# Altium footprint library ROBOT_MOTHERBOARD.PcbLib: 40 footprints (part 3 of 3)
Each footprint in its own frame and in the unit in brackets; x right, y up, seen from the top. Pads: shape width x height; smd on the part's side, far side on the other; paste and mask are expansions set on the pad; w line width, h text height; cw(c..) or ccw(c..) is an arc to the next point about the centre after c.
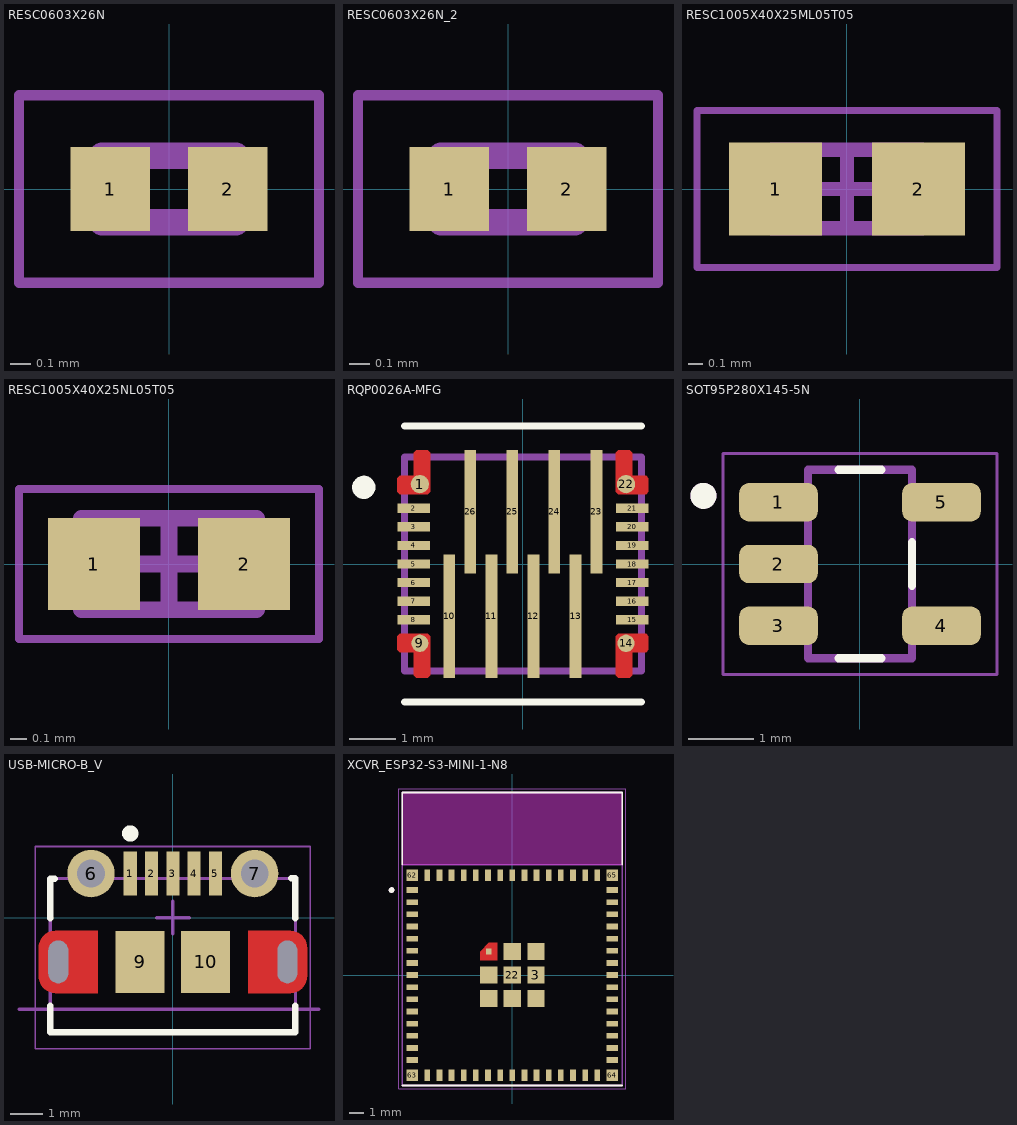
[diagram p2: the footprints below, top view; thin cyan lines are the x and y axes]

## RESC0603X26N [mm]
height 1
pads (2):
  rect 0.38x0.4 smd paste+0 mask+0.102: 1(-0.281,0) 2(0.281,0)
Mechanical 13:
  lines w0.127: -0.32,-0.16 -0.32,0.16 0.32,0.16 0.32,-0.16 -0.32,-0.16
Mechanical 15:
  lines w0.05: -0.718,-0.448 -0.718,0.448 0.718,0.448 0.718,-0.448 -0.718,-0.448
3D body "step_temp.STEP": height 0.26, standoff 0, extent -0.3,-0.15 0.3,0.15

## RESC0603X26N_2 [mm]
pads (2):
  rect 0.38x0.4 smd: 1(-0.281,0) 2(0.281,0)
Mechanical 13:
  lines w0.127: -0.32,-0.16 -0.32,0.16 0.32,0.16 0.32,-0.16 -0.32,-0.16
Mechanical 15:
  lines w0.05: -0.718,-0.448 -0.718,0.448 0.718,0.448 0.718,-0.448 -0.718,-0.448
3D body "step_temp.STEP": height 0.26, standoff 0, extent -0.3,-0.15 0.3,0.15

## RESC1005X40X25ML05T05 [mm] "Chip Resistor, 2-Leads, Body 1.00x0.50mm, IPC Low Density"
height 0.4
pads (2):
  rect 0.65x0.65 smd: 1(-0.5,0) 2(0.5,0)
Mechanical 13:
  lines w0.1: -0.525,-0.275 0.525,-0.275 0.525,0.275 -0.525,0.275 -0.525,-0.275
Mechanical 15:
  lines w0.05: -1.05,-0.55 1.05,-0.55 1.05,0.55 -1.05,0.55 -1.05,-0.55
  lines w0.1: -0.275,0 0.275,0 ; 0,-0.275 0,0.275
3D body: height 0.4, standoff 0, extent 0.275,-0.275 0.525,0.275
3D body: height 0.4, standoff 0, extent -0.525,-0.275 -0.275,0.275
3D body: height 0.4, standoff 0, extent -0.275,-0.275 0.275,0.275

## RESC1005X40X25NL05T05 [mm] "Chip Resistor, 2-Leads, Body 1.00x0.50mm, IPC Medium Density"
height 0.4
pads (2):
  rect 0.55x0.55 smd: 1(-0.45,0) 2(0.45,0)
Mechanical 13:
  lines w0.1: -0.525,-0.275 0.525,-0.275 0.525,0.275 -0.525,0.275 -0.525,-0.275
Mechanical 15:
  lines w0.05: -0.9,-0.45 0.9,-0.45 0.9,0.45 -0.9,0.45 -0.9,-0.45
  lines w0.1: -0.275,0 0.275,0 ; 0,-0.275 0,0.275
3D body: height 0.4, standoff 0, extent 0.275,-0.275 0.525,0.275
3D body: height 0.4, standoff 0, extent -0.525,-0.275 -0.275,0.275
3D body: height 0.4, standoff 0, extent -0.275,-0.275 0.275,0.275

## RQP0026A-MFG [mm]
height 11.45
pads (26):
  round 0.394 smd paste-0.184 mask+0: 1(-2.219,1.719) 22(2.219,1.719)
  rect 0.7x0.2 smd paste+0 mask+0: 2(-2.35,1.2) 3(-2.35,0.8) 4(-2.35,0.4) 5(-2.35,0) 6(-2.35,-0.4) 7(-2.35,-0.8) 8(-2.35,-1.2) 15(2.35,-1.2) 16(2.35,-0.8) 17(2.35,-0.4) 18(2.35,0) 19(2.35,0.4) 20(2.35,0.8) 21(2.35,1.2)
  round 0.371 smd paste-0.173 mask+0: 9(-2.219,-1.706) 14(2.219,-1.706)
  rect 0.25x2.65 smd paste-1.312 mask+0: 10(-1.582,-1.125) 11(-0.677,-1.125) 12(0.228,-1.125) 13(1.132,-1.125) 23(1.582,1.125) 24(0.677,1.125) 25(-0.228,1.125) 26(-1.132,1.125)
Top Layer:
  region: -2.05,-1.5 -2.65,-1.5 -2.7,-1.55 -2.7,-1.85 -2.65,-1.9 -2.35,-1.9 -2.35,-2.4 -2.3,-2.45 -2.05,-2.45 -2,-2.4 -2,-1.55
  region: 2.05,1.5 2.65,1.5 2.7,1.55 2.7,1.85 2.65,1.9 2.35,1.9 2.35,2.4 2.3,2.45 2.05,2.45 2,2.4 2,1.55
  region: 2.05,-1.5 2.65,-1.5 2.7,-1.55 2.7,-1.85 2.65,-1.9 2.35,-1.9 2.35,-2.4 2.3,-2.45 2.05,-2.45 2,-2.4 2,-1.55
  region: -2.05,1.5 -2.65,1.5 -2.7,1.55 -2.7,1.85 -2.65,1.9 -2.35,1.9 -2.35,2.4 -2.3,2.45 -2.05,2.45 -2,2.4 -2,1.55
Top Overlay:
  circle w0.25: c-3.425,1.65 r0.125
  lines w0.15: -2.55,-2.975 2.55,-2.975 ; -2.55,2.975 2.55,2.975
Top Paste:
  drawing of 20 lines, arcs and shapes, not listed
Top Solder:
  region: -2.7,-1.55 -2.65,-1.5 -2.05,-1.5 -2,-1.55 -2,-2.4 -2.05,-2.45 -2.3,-2.45 -2.35,-2.4 -2.35,-1.9 -2.65,-1.9 -2.7,-1.85
  region: 2.7,1.55 2.65,1.5 2.05,1.5 2,1.55 2,2.4 2.05,2.45 2.3,2.45 2.35,2.4 2.35,1.9 2.65,1.9 2.7,1.85
  region: 2.05,-1.5 2.65,-1.5 2.7,-1.55 2.7,-1.85 2.65,-1.9 2.35,-1.9 2.35,-2.4 2.3,-2.45 2.05,-2.45 2,-2.4 2,-1.55
  region: -2.05,1.5 -2.65,1.5 -2.7,1.55 -2.7,1.85 -2.65,1.9 -2.35,1.9 -2.35,2.4 -2.3,2.45 -2.05,2.45 -2,2.4 -2,1.55
Mechanical 13:
  lines w0.15: -2.55,-2.3 -2.55,2.3 2.55,2.3 2.55,-2.3 -2.55,-2.3
3D body "RQP0026A.stp": height 1, standoff 0, extent -2.5,-2.25 2.5,2.25

## SOT95P280X145-5N [mm]
pads (5):
  rrect50% 1.21x0.59 smd: 1(-1.255,0.95) 2(-1.255,0) 3(-1.255,-0.95) 4(1.255,-0.95) 5(1.255,0.95)
Top Overlay:
  circle w0.2: c-2.41,1.05 r0.1
  lines w0.127: -0.33,-1.45 0.33,-1.45 ; -0.33,1.45 0.33,1.45 ; 0.8,-0.335 0.8,0.335
Mechanical 13:
  circle w0.2: c-2.41,1.05 r0.1
  lines w0.127: -0.8,-1.45 -0.8,1.45 0.8,1.45 0.8,-1.45 -0.8,-1.45
Mechanical 15:
  lines w0.05: -2.11,-1.7 2.11,-1.7 2.11,1.7 -2.11,1.7 -2.11,-1.7
3D body "step_temp.STEP": height 1.45, standoff 0, extent -1.4,-1.45 1.4,1.45

## USB-MICRO-B_V [mm] "USB, MICRO B, Body 7.491x4.695 mm, Pitch 0.65 mm"
height 2.673
pads (11):
  rect 0.4x1.35 smd: 1(-1.3,1.35) 2(-0.65,1.35) 3(0,1.35) 4(0.65,1.35) 5(1.3,1.35)
  round 1.45 hole 0.85: 6(-2.5,1.35) 7(2.5,1.35)
  rrect0% 0x0 hole 0.6 slot 1.3 at 90 deg: 8(-3.5,-1.35) 11(3.5,-1.35)
  rect 1.5x1.9 smd: 9(-1,-1.35) 10(1,-1.35)
Top Layer:
  circle w0.5: c3.6,-0.9 r0.25
  circle w0.5: c3.6,-1.8 r0.25
  circle w0.5: c-3.6,-0.9 r0.25
  circle w0.5: c-3.6,-1.8 r0.25
  region: -2.3,-2.3 -2.3,-0.4 -3.6,-0.4 -3.6,-2.3
  region: 2.3,-0.4 2.3,-2.3 3.6,-2.3 3.6,-0.4
  region: 3.6,-0.9 3.6,-1.8 4.1,-1.8 4.1,-0.9
  region: -3.6,-1.8 -3.6,-0.9 -4.1,-0.9 -4.1,-1.8
Top Overlay:
  circle w0.25: c-1.3,2.575 r0.125
  lines w0.2: -3.745,-2.688 -3.745,-3.5 3.745,-3.5 3.745,-2.688 ; -3.745,-0.012 -3.745,1.195 -3.614,1.195 ; 3.615,1.2 3.745,1.2 3.745,-0.012
Mechanical 1:
  lines w0.1: -4.7,-2.8 4.465,-2.8
  text "PCB EDGE" at -7.2,-2.9 h0.3
Mechanical 13:
  lines w0.1: -3.75,1.2 3.745,1.2 3.745,-3.5 -3.745,-3.5 -3.745,1.195
Mechanical 15:
  lines w0.05: -4.2,-4 -4.2,2.175 4.2,2.175 4.2,-4 -4.2,-4
  lines w0.1: -0.5,0 0.5,0 ; 0,-0.5 0,0.5
3D body "1050170001.stp": height 2.67, standoff -0.63, extent -4.1,-3.9 4.1,1.5

## XCVR_ESP32-S3-MINI-1-N8 [mm]
height 2.55
pads (73):
  rect 0.8x0.4 smd: 1(-7,5.95) 2(-7,5.1) 3(-7,4.25) 4(-7,3.4) 5(-7,2.55) 6(-7,1.7) 7(-7,0.85) 8(-7,0) 9(-7,-0.85) 10(-7,-1.7) 11(-7,-2.55) 12(-7,-3.4) 13(-7,-4.25) 14(-7,-5.1) 15(-7,-5.95) 31(7,-5.95) 32(7,-5.1) 33(7,-4.25) 34(7,-3.4) 35(7,-2.55) 36(7,-1.7) 37(7,-0.85) 38(7,0) 39(7,0.85) 40(7,1.7) 41(7,2.55) 42(7,3.4) 43(7,4.25) 44(7,5.1) 45(7,5.95)
  rect 1.2x1.2 smd: 3(1.65,0) 22(0,0) 61_2(0,1.65) 61_3(1.65,1.65) 61_5(1.65,-1.65) 61_6(0,-1.65) 61_7(-1.65,-1.65) 61_8(-1.65,0)
  rect 0.4x0.8 smd: 16(-5.95,-7) 17(-5.1,-7) 18(-4.25,-7) 19(-3.4,-7) 20(-2.55,-7) 21(-1.7,-7) 22(-0.85,-7) 23(0,-7) 24(0.85,-7) 25(1.7,-7) 26(2.55,-7) 27(3.4,-7) 28(4.25,-7) 29(5.1,-7) 30(5.95,-7) 46(5.95,7) 47(5.1,7) 48(4.25,7) 49(3.4,7) 50(2.55,7) 51(1.7,7) 52(0.85,7) 53(0,7) 54(-0.85,7) 55(-1.7,7) 56(-2.55,7) 57(-3.4,7) 58(-4.25,7) 59(-5.1,7) 60(-5.95,7)
  rect 0.4x0.4 smd paste-1 mask+0: 61_1(-1.65,1.65)
  rect 0.8x0.8 smd: 62(-7,7) 63(-7,-7) 64(7,-7) 65(7,7)
Top Layer:
  region: -1.05,1.05 -2.25,1.05 -2.25,1.65 -1.65,2.25 -1.05,2.25
Top Overlay:
  circle w0.2: c-8.45,5.95 r0.1
  lines w0.127: -7.7,-7.725 7.7,-7.725 ; -7.7,7.725 -7.7,12.775 7.7,12.775 7.7,7.725
Top Paste:
  region: -1.05,1.05 -2.25,1.05 -2.25,1.65 -1.65,2.25 -1.05,2.25
Top Solder:
  region: -0.95,0.95 -2.35,0.95 -2.35,1.7 -1.7,2.35 -0.95,2.35
Keep-Out Layer:
  region: 7.7,7.725 -7.7,7.725 -7.7,12.775 7.7,12.775
  region: 7.7,7.725 -7.7,7.725 -7.7,12.775 7.7,12.775
Mechanical 13:
  circle w0.2: c-8.45,5.95 r0.1
  lines w0.127: -7.7,7.725 7.7,7.725 ; -7.7,7.725 -7.7,12.775 7.7,12.775 7.7,7.725 ; -7.7,7.725 -7.7,-7.725 7.7,-7.725 7.7,7.725
Mechanical 15:
  lines w0.05: -7.95,-7.975 7.95,-7.975 7.95,13.025 -7.95,13.025 -7.95,-7.975